# EAGLE library part 24AA512 (library eightbitlabs)
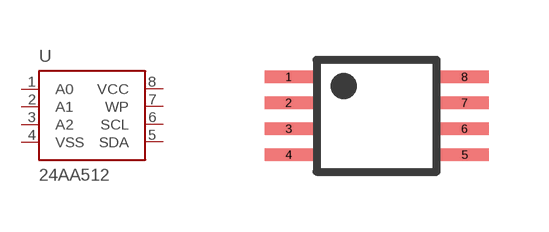
[diagram p2: symbol with the pads of TSSOP8; footprint TSSOP8]

Designator prefix U

## 24AA512  [TSSOP8]
1  A0  in
2  A1  in
3  A2  in
4  VSS  pwr
5  SDA
6  SCL
7  WP  in
8  VCC  pwr

## Footprint TSSOP8 (pad centres in mm)
Thin Shrink Small Outline Package 0.65mm Pitch, 3.0mm x 3.0mm
smd 1.2 x 0.305: 1 -2.2,0.975; 2 -2.2,0.325; 3 -2.2,-0.325; 4 -2.2,-0.975; 5 2.2,-0.975; 6 2.2,-0.325; 7 2.2,0.325; 8 2.2,0.975